# Altium schematic symbol library C_ANSI.SchLib: 4 symbols
Pins are listed as number, name and electrical type; pins without a type are passive.

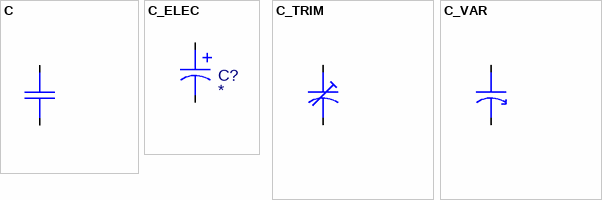
[diagram p0: symbols C to C_VAR]

## C
designator C?
pins: 1, 2

## C_ELEC
designator C?
pins: 1, 2

## C_TRIM
designator C?
pins: 1, 2

## C_VAR
designator C?
pins: 1, 2